# Altium footprint library SM_X1SON-2.PcbLib: 1 footprints
Each footprint in its own frame and in the unit in brackets; x right, y up, seen from the top. Pads: shape width x height; smd on the part's side, far side on the other; paste and mask are expansions set on the pad; w line width, h text height; cw(c..) or ccw(c..) is an arc to the next point about the centre after c.
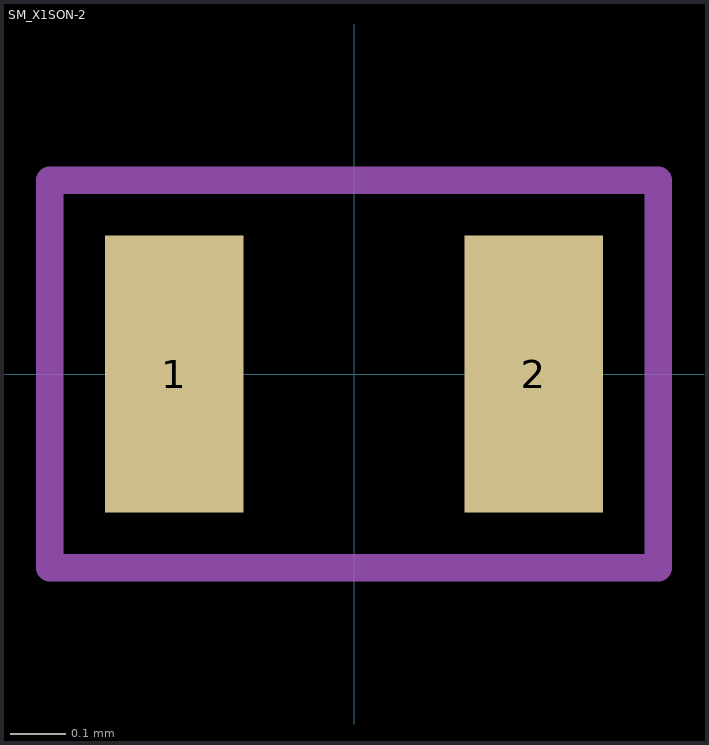
[diagram p0: the footprint, top view; thin cyan lines are the x and y axes]

## SM_X1SON-2 [mm] "TI X1SON, 2 Pins"
pads (2):
  rect 0.25x0.5 smd: 1(-0.325,0) 2(0.325,0)
Mechanical 5:
  lines w0.05: -0.55,-0.35 0.55,-0.35 0.55,0.35 -0.55,0.35 -0.55,-0.35
  text ".Designator" at -0.762,0.508 h0.25
3D body: height 0.4, standoff 0, extent -0.549,-0.349 0.549,0.349